# Altium schematic symbol library WE-GF.SchLib: 64 symbols (part 1 of 2)
Pins are listed as number, name and electrical type; pins without a type are passive.

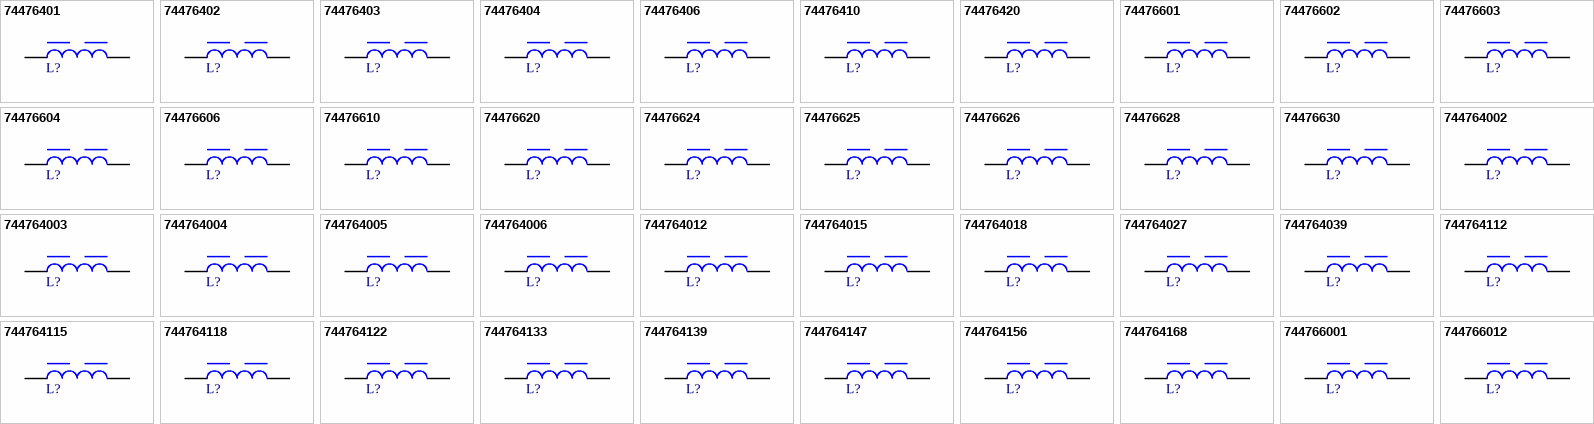
[diagram p0: symbols 74476401 to 744766012]

## 74476401
designator L?, comment 1µH, 400mA  (value not drawn)
WE-GF SMT Wire Wound Inductor, size 3225, 1µH, 400mA, 0.7Ω; Manufacturer Part Number: 74476401; Manufacturer: Wurth Elektronik; Case/Size Code: 3225; Q Factor: 30; Self Resonant Frequency: 340MHz; Category: Unshielded Power Inductors; Match Code: WE-GF; ComponentLink1Description: Website Link; ComponentLink1URL: https://www.we-online.com/redexpert/article/74476401?ad; ComponentLink2Description: Datasheet Link; ComponentLink2URL: https://www.we-online.com/redexpert/spec/74476401?ad; Mount: Surface Mount; Operating Temperature Max: 105°C; Operating Temperature Min: -40°C; Packaging: Tape and Reel; Length: 3.2mm; Width: 2.5mm; Height: 2.2mm; DC Resistance Max: 0.7Ω; Inductance: 1µH; Rated Current: 400mA
footprint WE-GF_3225
simulation model 1210_74476401_1u
pins: 1, 2

## 74476402
designator L?, comment 2.2µH, 320mA  (value not drawn)
WE-GF SMT Wire Wound Inductor, size 3225, 2.2µH, 320mA, 1Ω; Manufacturer Part Number: 74476402; Manufacturer: Wurth Elektronik; Case/Size Code: 3225; Q Factor: 30; Self Resonant Frequency: 100MHz; Category: Unshielded Power Inductors; Match Code: WE-GF; ComponentLink1Description: Website Link; ComponentLink1URL: https://www.we-online.com/redexpert/article/74476402?ad; ComponentLink2Description: Datasheet Link; ComponentLink2URL: https://www.we-online.com/redexpert/spec/74476402?ad; Mount: Surface Mount; Operating Temperature Max: 105°C; Operating Temperature Min: -40°C; Packaging: Tape and Reel; Length: 3.2mm; Width: 2.5mm; Height: 2.2mm; DC Resistance Max: 1Ω; Inductance: 2.2µH; Rated Current: 320mA
footprint WE-GF_3225
simulation model 1210_74476402_2.2u
pins: 1, 2

## 74476403
designator L?, comment 3.3µH, 260mA  (value not drawn)
WE-GF SMT Wire Wound Inductor, size 3225, 3.3µH, 260mA, 1.2Ω; Manufacturer Part Number: 74476403; Manufacturer: Wurth Elektronik; Case/Size Code: 3225; Q Factor: 30; Self Resonant Frequency: 60MHz; Category: Unshielded Power Inductors; Match Code: WE-GF; ComponentLink1Description: Website Link; ComponentLink1URL: https://www.we-online.com/redexpert/article/74476403?ad; ComponentLink2Description: Datasheet Link; ComponentLink2URL: https://www.we-online.com/redexpert/spec/74476403?ad; Mount: Surface Mount; Operating Temperature Max: 105°C; Operating Temperature Min: -40°C; Packaging: Tape and Reel; Length: 3.2mm; Width: 2.5mm; Height: 2.2mm; DC Resistance Max: 1.2Ω; Inductance: 3.3µH; Rated Current: 260mA
footprint WE-GF_3225
simulation model 1210_74476403_3.3u
pins: 1, 2

## 74476404
designator L?, comment 4.7µH, 220mA  (value not drawn)
WE-GF SMT Wire Wound Inductor, size 3225, 4.7µH, 220mA, 1.5Ω; Manufacturer Part Number: 74476404; Manufacturer: Wurth Elektronik; Case/Size Code: 3225; Q Factor: 30; Self Resonant Frequency: 45MHz; Category: Unshielded Power Inductors; Match Code: WE-GF; ComponentLink1Description: Website Link; ComponentLink1URL: https://www.we-online.com/redexpert/article/74476404?ad; ComponentLink2Description: Datasheet Link; ComponentLink2URL: https://www.we-online.com/redexpert/spec/74476404?ad; Mount: Surface Mount; Operating Temperature Max: 105°C; Operating Temperature Min: -40°C; Packaging: Tape and Reel; Length: 3.2mm; Width: 2.5mm; Height: 2.2mm; DC Resistance Max: 1.5Ω; Inductance: 4.7µH; Rated Current: 220mA
footprint WE-GF_3225
simulation model 1210_74476404_4.7u
pins: 1, 2

## 74476406
designator L?, comment 6.8µH, 180mA  (value not drawn)
WE-GF SMT Wire Wound Inductor, size 3225, 6.8µH, 180mA, 1.8Ω; Manufacturer Part Number: 74476406; Manufacturer: Wurth Elektronik; Case/Size Code: 3225; Q Factor: 30; Self Resonant Frequency: 38MHz; Category: Unshielded Power Inductors; Match Code: WE-GF; ComponentLink1Description: Website Link; ComponentLink1URL: https://www.we-online.com/redexpert/article/74476406?ad; ComponentLink2Description: Datasheet Link; ComponentLink2URL: https://www.we-online.com/redexpert/spec/74476406?ad; Mount: Surface Mount; Operating Temperature Max: 105°C; Operating Temperature Min: -40°C; Packaging: Tape and Reel; Length: 3.2mm; Width: 2.5mm; Height: 2.2mm; DC Resistance Max: 1.8Ω; Inductance: 6.8µH; Rated Current: 180mA
footprint WE-GF_3225
simulation model 1210_74476406_6.8u
pins: 1, 2

## 74476410
designator L?, comment 10µH, 150mA  (value not drawn)
WE-GF SMT Wire Wound Inductor, size 3225, 10µH, 150mA, 2.1Ω; Manufacturer Part Number: 74476410; Manufacturer: Wurth Elektronik; Case/Size Code: 3225; Q Factor: 30; Self Resonant Frequency: 32MHz; Category: Unshielded Power Inductors; Match Code: WE-GF; ComponentLink1Description: Website Link; ComponentLink1URL: https://www.we-online.com/redexpert/article/74476410?ad; ComponentLink2Description: Datasheet Link; ComponentLink2URL: https://www.we-online.com/redexpert/spec/74476410?ad; Mount: Surface Mount; Operating Temperature Max: 105°C; Operating Temperature Min: -40°C; Packaging: Tape and Reel; Length: 3.2mm; Width: 2.5mm; Height: 2.2mm; DC Resistance Max: 2.1Ω; Inductance: 10µH; Rated Current: 150mA
footprint WE-GF_3225
simulation model 1210_74476410_10u
pins: 1, 2

## 74476420
designator L?, comment 100µH, 40mA  (value not drawn)
WE-GF SMT Wire Wound Inductor, size 3225, 100µH, 40mA, 11Ω; Manufacturer Part Number: 74476420; Manufacturer: Wurth Elektronik; Case/Size Code: 3225; Q Factor: 20; Self Resonant Frequency: 11MHz; Category: Unshielded Power Inductors; Match Code: WE-GF; ComponentLink1Description: Website Link; ComponentLink1URL: https://www.we-online.com/redexpert/article/74476420?ad; ComponentLink2Description: Datasheet Link; ComponentLink2URL: https://www.we-online.com/redexpert/spec/74476420?ad; Mount: Surface Mount; Operating Temperature Max: 105°C; Operating Temperature Min: -40°C; Packaging: Tape and Reel; Length: 3.2mm; Width: 2.5mm; Height: 2.2mm; DC Resistance Max: 11Ω; Inductance: 100µH; Rated Current: 40mA
footprint WE-GF_3225
simulation model 1210_74476420_100u
pins: 1, 2

## 74476601
designator L?, comment 1µH, 450mA  (value not drawn)
WE-GF SMT Wire Wound Inductor, size 4532, 1µH, 450mA, 0.5Ω; Manufacturer Part Number: 74476601; Manufacturer: Wurth Elektronik; Case/Size Code: 4532; Q Factor: 50; Self Resonant Frequency: 275MHz; Category: Unshielded Power Inductors; Match Code: WE-GF; ComponentLink1Description: Website Link; ComponentLink1URL: https://www.we-online.com/redexpert/article/74476601?ad; ComponentLink2Description: Datasheet Link; ComponentLink2URL: https://www.we-online.com/redexpert/spec/74476601?ad; Mount: Surface Mount; Operating Temperature Max: 105°C; Operating Temperature Min: -40°C; Packaging: Tape and Reel; Length: 4.5mm; Width: 3.2mm; Height: 3.2mm; DC Resistance Max: 0.5Ω; Inductance: 1µH; Rated Current: 450mA
footprint WE-GF_4532
simulation model 1812_74476601_1u
pins: 1, 2

## 74476602
designator L?, comment 2.2µH, 380mA  (value not drawn)
WE-GF SMT Wire Wound Inductor, size 4532, 2.2µH, 380mA, 0.7Ω; Manufacturer Part Number: 74476602; Manufacturer: Wurth Elektronik; Case/Size Code: 4532; Q Factor: 50; Self Resonant Frequency: 185MHz; Category: Unshielded Power Inductors; Match Code: WE-GF; ComponentLink1Description: Website Link; ComponentLink1URL: https://www.we-online.com/redexpert/article/74476602?ad; ComponentLink2Description: Datasheet Link; ComponentLink2URL: https://www.we-online.com/redexpert/spec/74476602?ad; Mount: Surface Mount; Operating Temperature Max: 105°C; Operating Temperature Min: -40°C; Packaging: Tape and Reel; Length: 4.5mm; Width: 3.2mm; Height: 3.2mm; DC Resistance Max: 0.7Ω; Inductance: 2.2µH; Rated Current: 380mA
footprint WE-GF_4532
simulation model 1812_74476602_2.2u
pins: 1, 2

## 74476603
designator L?, comment 3.3µH, 355mA  (value not drawn)
WE-GF SMT Wire Wound Inductor, size 4532, 3.3µH, 355mA, 0.8Ω; Manufacturer Part Number: 74476603; Manufacturer: Wurth Elektronik; Case/Size Code: 4532; Q Factor: 50; Self Resonant Frequency: 155MHz; Category: Unshielded Power Inductors; Match Code: WE-GF; ComponentLink1Description: Website Link; ComponentLink1URL: https://www.we-online.com/redexpert/article/74476603?ad; ComponentLink2Description: Datasheet Link; ComponentLink2URL: https://www.we-online.com/redexpert/spec/74476603?ad; Mount: Surface Mount; Operating Temperature Max: 105°C; Operating Temperature Min: -40°C; Packaging: Tape and Reel; Length: 4.5mm; Width: 3.2mm; Height: 3.2mm; DC Resistance Max: 0.8Ω; Inductance: 3.3µH; Rated Current: 355mA
footprint WE-GF_4532
simulation model 1812_74476603_3.3u
pins: 1, 2

## 74476604
designator L?, comment 4.7µH, 315mA  (value not drawn)
WE-GF SMT Wire Wound Inductor, size 4532, 4.7µH, 315mA, 1Ω; Manufacturer Part Number: 74476604; Manufacturer: Wurth Elektronik; Case/Size Code: 4532; Q Factor: 50; Self Resonant Frequency: 95MHz; Category: Unshielded Power Inductors; Match Code: WE-GF; ComponentLink1Description: Website Link; ComponentLink1URL: https://www.we-online.com/redexpert/article/74476604?ad; ComponentLink2Description: Datasheet Link; ComponentLink2URL: https://www.we-online.com/redexpert/spec/74476604?ad; Mount: Surface Mount; Operating Temperature Max: 105°C; Operating Temperature Min: -40°C; Packaging: Tape and Reel; Length: 4.5mm; Width: 3.2mm; Height: 3.2mm; DC Resistance Max: 1Ω; Inductance: 4.7µH; Rated Current: 315mA
footprint WE-GF_4532
simulation model 1812_74476604_4.7u
pins: 1, 2

## 74476606
designator L?, comment 6.8µH, 285mA  (value not drawn)
WE-GF SMT Wire Wound Inductor, size 4532, 6.8µH, 285mA, 1.2Ω; Manufacturer Part Number: 74476606; Manufacturer: Wurth Elektronik; Case/Size Code: 4532; Q Factor: 50; Self Resonant Frequency: 35MHz; Category: Unshielded Power Inductors; Match Code: WE-GF; ComponentLink1Description: Website Link; ComponentLink1URL: https://www.we-online.com/redexpert/article/74476606?ad; ComponentLink2Description: Datasheet Link; ComponentLink2URL: https://www.we-online.com/redexpert/spec/74476606?ad; Mount: Surface Mount; Operating Temperature Max: 105°C; Operating Temperature Min: -40°C; Packaging: Tape and Reel; Length: 4.5mm; Width: 3.2mm; Height: 3.2mm; DC Resistance Max: 1.2Ω; Inductance: 6.8µH; Rated Current: 285mA
footprint WE-GF_4532
simulation model 1812_74476606_6.8u
pins: 1, 2

## 74476610
designator L?, comment 10µH, 250mA  (value not drawn)
WE-GF SMT Wire Wound Inductor, size 4532, 10µH, 250mA, 1.6Ω; Manufacturer Part Number: 74476610; Manufacturer: Wurth Elektronik; Case/Size Code: 4532; Q Factor: 50; Self Resonant Frequency: 25MHz; Category: Unshielded Power Inductors; Match Code: WE-GF; ComponentLink1Description: Website Link; ComponentLink1URL: https://www.we-online.com/redexpert/article/74476610?ad; ComponentLink2Description: Datasheet Link; ComponentLink2URL: https://www.we-online.com/redexpert/spec/74476610?ad; Mount: Surface Mount; Operating Temperature Max: 105°C; Operating Temperature Min: -40°C; Packaging: Tape and Reel; Length: 4.5mm; Width: 3.2mm; Height: 3.2mm; DC Resistance Max: 1.6Ω; Inductance: 10µH; Rated Current: 250mA
footprint WE-GF_4532
simulation model 1812_74476610_10u
pins: 1, 2

## 74476620
designator L?, comment 100µH, 110mA  (value not drawn)
WE-GF SMT Wire Wound Inductor, size 4532, 100µH, 110mA, 8Ω; Manufacturer Part Number: 74476620; Manufacturer: Wurth Elektronik; Case/Size Code: 4532; Q Factor: 40; Self Resonant Frequency: 8.5MHz; Category: Unshielded Power Inductors; Match Code: WE-GF; ComponentLink1Description: Website Link; ComponentLink1URL: https://www.we-online.com/redexpert/article/74476620?ad; ComponentLink2Description: Datasheet Link; ComponentLink2URL: https://www.we-online.com/redexpert/spec/74476620?ad; Mount: Surface Mount; Operating Temperature Max: 105°C; Operating Temperature Min: -40°C; Packaging: Tape and Reel; Length: 4.5mm; Width: 3.2mm; Height: 3.2mm; DC Resistance Max: 8Ω; Inductance: 100µH; Rated Current: 110mA
footprint WE-GF_4532
simulation model 1812_74476620_100u
pins: 1, 2

## 74476624
designator L?, comment 470µH, 62mA  (value not drawn)
WE-GF SMT Wire Wound Inductor, size 4532, 470µH, 62mA, 26Ω; Manufacturer Part Number: 74476624; Manufacturer: Wurth Elektronik; Case/Size Code: 4532; Q Factor: 40; Self Resonant Frequency: 3.4MHz; Category: Unshielded Power Inductors; Match Code: WE-GF; ComponentLink1Description: Website Link; ComponentLink1URL: https://www.we-online.com/redexpert/article/74476624?ad; ComponentLink2Description: Datasheet Link; ComponentLink2URL: https://www.we-online.com/redexpert/spec/74476624?ad; Mount: Surface Mount; Operating Temperature Max: 105°C; Operating Temperature Min: -40°C; Packaging: Tape and Reel; Length: 4.5mm; Width: 3.2mm; Height: 3.2mm; DC Resistance Max: 26Ω; Inductance: 470µH; Rated Current: 62mA
footprint WE-GF_4532
simulation model 1812_74476624_470u
pins: 1, 2

## 74476625
designator L?, comment 560µH, 50mA  (value not drawn)
WE-GF SMT Wire Wound Inductor, size 4532, 560µH, 50mA, 30Ω; Manufacturer Part Number: 74476625; Manufacturer: Wurth Elektronik; Case/Size Code: 4532; Q Factor: 40; Self Resonant Frequency: 3MHz; Category: Unshielded Power Inductors; Match Code: WE-GF; ComponentLink1Description: Website Link; ComponentLink1URL: https://www.we-online.com/redexpert/article/74476625?ad; ComponentLink2Description: Datasheet Link; ComponentLink2URL: https://www.we-online.com/redexpert/spec/74476625?ad; Mount: Surface Mount; Operating Temperature Max: 105°C; Operating Temperature Min: -40°C; Packaging: Tape and Reel; Length: 4.5mm; Width: 3.2mm; Height: 3.2mm; DC Resistance Max: 30Ω; Inductance: 560µH; Rated Current: 50mA
footprint WE-GF_4532
simulation model 1812_74476625_560u
pins: 1, 2

## 74476626
designator L?, comment 680µH, 50mA  (value not drawn)
WE-GF SMT Wire Wound Inductor, size 4532, 680µH, 50mA, 30Ω; Manufacturer Part Number: 74476626; Manufacturer: Wurth Elektronik; Case/Size Code: 4532; Q Factor: 30; Self Resonant Frequency: 3MHz; Category: Unshielded Power Inductors; Match Code: WE-GF; ComponentLink1Description: Website Link; ComponentLink1URL: https://www.we-online.com/redexpert/article/74476626?ad; ComponentLink2Description: Datasheet Link; ComponentLink2URL: https://www.we-online.com/redexpert/spec/74476626?ad; Mount: Surface Mount; Operating Temperature Max: 105°C; Operating Temperature Min: -40°C; Packaging: Tape and Reel; Length: 4.5mm; Width: 3.2mm; Height: 3.2mm; DC Resistance Max: 30Ω; Inductance: 680µH; Rated Current: 50mA
footprint WE-GF_4532
simulation model 1812_74476626_680u
pins: 1, 2

## 74476628
designator L?, comment 820µH, 30mA  (value not drawn)
WE-GF SMT Wire Wound Inductor, size 4532, 820µH, 30mA, 45Ω; Manufacturer Part Number: 74476628; Manufacturer: Wurth Elektronik; Case/Size Code: 4532; Q Factor: 25; Self Resonant Frequency: 2.5MHz; Category: Unshielded Power Inductors; Match Code: WE-GF; ComponentLink1Description: Website Link; ComponentLink1URL: https://www.we-online.com/redexpert/article/74476628?ad; ComponentLink2Description: Datasheet Link; ComponentLink2URL: https://www.we-online.com/redexpert/spec/74476628?ad; Mount: Surface Mount; Operating Temperature Max: 105°C; Operating Temperature Min: -40°C; Packaging: Tape and Reel; Length: 4.5mm; Width: 3.2mm; Height: 3.2mm; DC Resistance Max: 45Ω; Inductance: 820µH; Rated Current: 30mA
footprint WE-GF_4532
simulation model 1812_74476628_820u
pins: 1, 2

## 74476630
designator L?, comment 1000µH, 30mA  (value not drawn)
WE-GF SMT Wire Wound Inductor, size 4532, 1000µH, 30mA, 50Ω; Manufacturer Part Number: 74476630; Manufacturer: Wurth Elektronik; Case/Size Code: 4532; Q Factor: 20; Self Resonant Frequency: 2.5MHz; Category: Unshielded Power Inductors; Match Code: WE-GF; ComponentLink1Description: Website Link; ComponentLink1URL: https://www.we-online.com/redexpert/article/74476630?ad; ComponentLink2Description: Datasheet Link; ComponentLink2URL: https://www.we-online.com/redexpert/spec/74476630?ad; Mount: Surface Mount; Operating Temperature Max: 105°C; Operating Temperature Min: -40°C; Packaging: Tape and Reel; Length: 4.5mm; Width: 3.2mm; Height: 3.2mm; DC Resistance Max: 50Ω; Inductance: 1000µH; Rated Current: 30mA
footprint WE-GF_4532
simulation model 1812_74476630_1m
pins: 1, 2

## 744764002
designator L?, comment 0.22µH, 450mA  (value not drawn)
WE-GF SMT Wire Wound Inductor, size 3225, 0.22µH, 450mA, 0.32Ω; Manufacturer Part Number: 744764002; Manufacturer: Wurth Elektronik; Case/Size Code: 3225; Q Factor: 30; Self Resonant Frequency: 660MHz; Category: Unshielded Power Inductors; Match Code: WE-GF; ComponentLink1Description: Website Link; ComponentLink1URL: https://www.we-online.com/redexpert/article/744764002?ad; ComponentLink2Description: Datasheet Link; ComponentLink2URL: https://www.we-online.com/redexpert/spec/744764002?ad; Mount: Surface Mount; Operating Temperature Max: 105°C; Operating Temperature Min: -40°C; Packaging: Tape and Reel; Length: 3.2mm; Width: 2.5mm; Height: 2.2mm; DC Resistance Max: 0.32Ω; Inductance: 0.22µH; Rated Current: 450mA
footprint WE-GF_3225
simulation model 1210_744764002_0.22u
pins: 1, 2

## 744764003
designator L?, comment 0.39µH, 450mA  (value not drawn)
WE-GF SMT Wire Wound Inductor, size 3225, 0.39µH, 450mA, 0.45Ω; Manufacturer Part Number: 744764003; Manufacturer: Wurth Elektronik; Case/Size Code: 3225; Q Factor: 30; Self Resonant Frequency: 520MHz; Category: Unshielded Power Inductors; Match Code: WE-GF; ComponentLink1Description: Website Link; ComponentLink1URL: https://www.we-online.com/redexpert/article/744764003?ad; ComponentLink2Description: Datasheet Link; ComponentLink2URL: https://www.we-online.com/redexpert/spec/744764003?ad; Mount: Surface Mount; Operating Temperature Max: 105°C; Operating Temperature Min: -40°C; Packaging: Tape and Reel; Length: 3.2mm; Width: 2.5mm; Height: 2.2mm; DC Resistance Max: 0.45Ω; Inductance: 0.39µH; Rated Current: 450mA
footprint WE-GF_3225
simulation model 1210_744764003_0.39u
pins: 1, 2

## 744764004
designator L?, comment 0.47µH, 450mA  (value not drawn)
WE-GF SMT Wire Wound Inductor, size 3225, 0.47µH, 450mA, 0.5Ω; Manufacturer Part Number: 744764004; Manufacturer: Wurth Elektronik; Case/Size Code: 3225; Q Factor: 30; Self Resonant Frequency: 480MHz; Category: Unshielded Power Inductors; Match Code: WE-GF; ComponentLink1Description: Website Link; ComponentLink1URL: https://www.we-online.com/redexpert/article/744764004?ad; ComponentLink2Description: Datasheet Link; ComponentLink2URL: https://www.we-online.com/redexpert/spec/744764004?ad; Mount: Surface Mount; Operating Temperature Max: 105°C; Operating Temperature Min: -40°C; Packaging: Tape and Reel; Length: 3.2mm; Width: 2.5mm; Height: 2.2mm; DC Resistance Max: 0.5Ω; Inductance: 0.47µH; Rated Current: 450mA
footprint WE-GF_3225
simulation model 1210_744764004_0.47u
pins: 1, 2

## 744764005
designator L?, comment 0.56µH, 450mA  (value not drawn)
WE-GF SMT Wire Wound Inductor, size 3225, 0.56µH, 450mA, 0.55Ω; Manufacturer Part Number: 744764005; Manufacturer: Wurth Elektronik; Case/Size Code: 3225; Q Factor: 30; Self Resonant Frequency: 420MHz; Category: Unshielded Power Inductors; Match Code: WE-GF; ComponentLink1Description: Website Link; ComponentLink1URL: https://www.we-online.com/redexpert/article/744764005?ad; ComponentLink2Description: Datasheet Link; ComponentLink2URL: https://www.we-online.com/redexpert/spec/744764005?ad; Mount: Surface Mount; Operating Temperature Max: 105°C; Operating Temperature Min: -40°C; Packaging: Tape and Reel; Length: 3.2mm; Width: 2.5mm; Height: 2.2mm; DC Resistance Max: 0.55Ω; Inductance: 0.56µH; Rated Current: 450mA
footprint WE-GF_3225
simulation model 1210_744764005_0.56u
pins: 1, 2

## 744764006
designator L?, comment 0.68µH, 450mA  (value not drawn)
WE-GF SMT Wire Wound Inductor, size 3225, 0.68µH, 450mA, 0.6Ω; Manufacturer Part Number: 744764006; Manufacturer: Wurth Elektronik; Case/Size Code: 3225; Q Factor: 30; Self Resonant Frequency: 400MHz; Category: Unshielded Power Inductors; Match Code: WE-GF; ComponentLink1Description: Website Link; ComponentLink1URL: https://www.we-online.com/redexpert/article/744764006?ad; ComponentLink2Description: Datasheet Link; ComponentLink2URL: https://www.we-online.com/redexpert/spec/744764006?ad; Mount: Surface Mount; Operating Temperature Max: 105°C; Operating Temperature Min: -40°C; Packaging: Tape and Reel; Length: 3.2mm; Width: 2.5mm; Height: 2.2mm; DC Resistance Max: 0.6Ω; Inductance: 0.68µH; Rated Current: 450mA
footprint WE-GF_3225
simulation model 1210_744764006_0.68u
pins: 1, 2

## 744764012
designator L?, comment 1.2µH, 390mA  (value not drawn)
WE-GF SMT Wire Wound Inductor, size 3225, 1.2µH, 390mA, 0.75Ω; Manufacturer Part Number: 744764012; Manufacturer: Wurth Elektronik; Case/Size Code: 3225; Q Factor: 30; Self Resonant Frequency: 320MHz; Category: Unshielded Power Inductors; Match Code: WE-GF; ComponentLink1Description: Website Link; ComponentLink1URL: https://www.we-online.com/redexpert/article/744764012?ad; ComponentLink2Description: Datasheet Link; ComponentLink2URL: https://www.we-online.com/redexpert/spec/744764012?ad; Mount: Surface Mount; Operating Temperature Max: 105°C; Operating Temperature Min: -40°C; Packaging: Tape and Reel; Length: 3.2mm; Width: 2.5mm; Height: 2.2mm; DC Resistance Max: 0.75Ω; Inductance: 1.2µH; Rated Current: 390mA
footprint WE-GF_3225
simulation model 1210_744764012_1.2u
pins: 1, 2

## 744764015
designator L?, comment 1.5µH, 370mA  (value not drawn)
WE-GF SMT Wire Wound Inductor, size 3225, 1.5µH, 370mA, 0.85Ω; Manufacturer Part Number: 744764015; Manufacturer: Wurth Elektronik; Case/Size Code: 3225; Q Factor: 30; Self Resonant Frequency: 250MHz; Category: Unshielded Power Inductors; Match Code: WE-GF; ComponentLink1Description: Website Link; ComponentLink1URL: https://www.we-online.com/redexpert/article/744764015?ad; ComponentLink2Description: Datasheet Link; ComponentLink2URL: https://www.we-online.com/redexpert/spec/744764015?ad; Mount: Surface Mount; Operating Temperature Max: 105°C; Operating Temperature Min: -40°C; Packaging: Tape and Reel; Length: 3.2mm; Width: 2.5mm; Height: 2.2mm; DC Resistance Max: 0.85Ω; Inductance: 1.5µH; Rated Current: 370mA
footprint WE-GF_3225
simulation model 1210_744764015_1.5u
pins: 1, 2

## 744764018
designator L?, comment 1.8µH, 350mA  (value not drawn)
WE-GF SMT Wire Wound Inductor, size 3225, 1.8µH, 350mA, 0.9Ω; Manufacturer Part Number: 744764018; Manufacturer: Wurth Elektronik; Case/Size Code: 3225; Q Factor: 30; Self Resonant Frequency: 170MHz; Category: Unshielded Power Inductors; Match Code: WE-GF; ComponentLink1Description: Website Link; ComponentLink1URL: https://www.we-online.com/redexpert/article/744764018?ad; ComponentLink2Description: Datasheet Link; ComponentLink2URL: https://www.we-online.com/redexpert/spec/744764018?ad; Mount: Surface Mount; Operating Temperature Max: 105°C; Operating Temperature Min: -40°C; Packaging: Tape and Reel; Length: 3.2mm; Width: 2.5mm; Height: 2.2mm; DC Resistance Max: 0.9Ω; Inductance: 1.8µH; Rated Current: 350mA
footprint WE-GF_3225
simulation model 1210_744764018_1.8u
pins: 1, 2

## 744764027
designator L?, comment 2.7µH, 290mA  (value not drawn)
WE-GF SMT Wire Wound Inductor, size 3225, 2.7µH, 290mA, 1.1Ω; Manufacturer Part Number: 744764027; Manufacturer: Wurth Elektronik; Case/Size Code: 3225; Q Factor: 30; Self Resonant Frequency: 80MHz; Category: Unshielded Power Inductors; Match Code: WE-GF; ComponentLink1Description: Website Link; ComponentLink1URL: https://www.we-online.com/redexpert/article/744764027?ad; ComponentLink2Description: Datasheet Link; ComponentLink2URL: https://www.we-online.com/redexpert/spec/744764027?ad; Mount: Surface Mount; Operating Temperature Max: 105°C; Operating Temperature Min: -40°C; Packaging: Tape and Reel; Length: 3.2mm; Width: 2.5mm; Height: 2.2mm; DC Resistance Max: 1.1Ω; Inductance: 2.7µH; Rated Current: 290mA
footprint WE-GF_3225
simulation model 1210_744764027_2.7u
pins: 1, 2

## 744764039
designator L?, comment 3.9µH, 250mA  (value not drawn)
WE-GF SMT Wire Wound Inductor, size 3225, 3.9µH, 250mA, 1.3Ω; Manufacturer Part Number: 744764039; Manufacturer: Wurth Elektronik; Case/Size Code: 3225; Q Factor: 30; Self Resonant Frequency: 50MHz; Category: Unshielded Power Inductors; Match Code: WE-GF; ComponentLink1Description: Website Link; ComponentLink1URL: https://www.we-online.com/redexpert/article/744764039?ad; ComponentLink2Description: Datasheet Link; ComponentLink2URL: https://www.we-online.com/redexpert/spec/744764039?ad; Mount: Surface Mount; Operating Temperature Max: 105°C; Operating Temperature Min: -40°C; Packaging: Tape and Reel; Length: 3.2mm; Width: 2.5mm; Height: 2.2mm; DC Resistance Max: 1.3Ω; Inductance: 3.9µH; Rated Current: 250mA
footprint WE-GF_3225
simulation model 1210_744764039_3.9u
pins: 1, 2

## 744764112
designator L?, comment 12µH, 140mA  (value not drawn)
WE-GF SMT Wire Wound Inductor, size 3225, 12µH, 140mA, 2.5Ω; Manufacturer Part Number: 744764112; Manufacturer: Wurth Elektronik; Case/Size Code: 3225; Q Factor: 30; Self Resonant Frequency: 28MHz; Category: Unshielded Power Inductors; Match Code: WE-GF; ComponentLink1Description: Website Link; ComponentLink1URL: https://www.we-online.com/redexpert/article/744764112?ad; ComponentLink2Description: Datasheet Link; ComponentLink2URL: https://www.we-online.com/redexpert/spec/744764112?ad; Mount: Surface Mount; Operating Temperature Max: 105°C; Operating Temperature Min: -40°C; Packaging: Tape and Reel; Length: 3.2mm; Width: 2.5mm; Height: 2.2mm; DC Resistance Max: 2.5Ω; Inductance: 12µH; Rated Current: 140mA
footprint WE-GF_3225
simulation model 1210_744764112_12u
pins: 1, 2

## 744764115
designator L?, comment 15µH, 130mA  (value not drawn)
WE-GF SMT Wire Wound Inductor, size 3225, 15µH, 130mA, 2.8Ω; Manufacturer Part Number: 744764115; Manufacturer: Wurth Elektronik; Case/Size Code: 3225; Q Factor: 30; Self Resonant Frequency: 26MHz; Category: Unshielded Power Inductors; Match Code: WE-GF; ComponentLink1Description: Website Link; ComponentLink1URL: https://www.we-online.com/redexpert/article/744764115?ad; ComponentLink2Description: Datasheet Link; ComponentLink2URL: https://www.we-online.com/redexpert/spec/744764115?ad; Mount: Surface Mount; Operating Temperature Max: 105°C; Operating Temperature Min: -40°C; Packaging: Tape and Reel; Length: 3.2mm; Width: 2.5mm; Height: 2.2mm; DC Resistance Max: 2.8Ω; Inductance: 15µH; Rated Current: 130mA
footprint WE-GF_3225
simulation model 1210_744764115_15u
pins: 1, 2

## 744764118
designator L?, comment 18µH, 120mA  (value not drawn)
WE-GF SMT Wire Wound Inductor, size 3225, 18µH, 120mA, 3.3Ω; Manufacturer Part Number: 744764118; Manufacturer: Wurth Elektronik; Case/Size Code: 3225; Q Factor: 30; Self Resonant Frequency: 23MHz; Category: Unshielded Power Inductors; Match Code: WE-GF; ComponentLink1Description: Website Link; ComponentLink1URL: https://www.we-online.com/redexpert/article/744764118?ad; ComponentLink2Description: Datasheet Link; ComponentLink2URL: https://www.we-online.com/redexpert/spec/744764118?ad; Mount: Surface Mount; Operating Temperature Max: 105°C; Operating Temperature Min: -40°C; Packaging: Tape and Reel; Length: 3.2mm; Width: 2.5mm; Height: 2.2mm; DC Resistance Max: 3.3Ω; Inductance: 18µH; Rated Current: 120mA
footprint WE-GF_3225
simulation model 1210_744764118_18u
pins: 1, 2

## 744764122
designator L?, comment 22µH, 110mA  (value not drawn)
WE-GF SMT Wire Wound Inductor, size 3225, 22µH, 110mA, 3.7Ω; Manufacturer Part Number: 744764122; Manufacturer: Wurth Elektronik; Case/Size Code: 3225; Q Factor: 30; Self Resonant Frequency: 20MHz; Category: Unshielded Power Inductors; Match Code: WE-GF; ComponentLink1Description: Website Link; ComponentLink1URL: https://www.we-online.com/redexpert/article/744764122?ad; ComponentLink2Description: Datasheet Link; ComponentLink2URL: https://www.we-online.com/redexpert/spec/744764122?ad; Mount: Surface Mount; Operating Temperature Max: 105°C; Operating Temperature Min: -40°C; Packaging: Tape and Reel; Length: 3.2mm; Width: 2.5mm; Height: 2.2mm; DC Resistance Max: 3.7Ω; Inductance: 22µH; Rated Current: 110mA
footprint WE-GF_3225
simulation model 1210_744764122_22u
pins: 1, 2

## 744764133
designator L?, comment 33µH, 70mA  (value not drawn)
WE-GF SMT Wire Wound Inductor, size 3225, 33µH, 70mA, 5.6Ω; Manufacturer Part Number: 744764133; Manufacturer: Wurth Elektronik; Case/Size Code: 3225; Q Factor: 30; Self Resonant Frequency: 17MHz; Category: Unshielded Power Inductors; Match Code: WE-GF; ComponentLink1Description: Website Link; ComponentLink1URL: https://www.we-online.com/redexpert/article/744764133?ad; ComponentLink2Description: Datasheet Link; ComponentLink2URL: https://www.we-online.com/redexpert/spec/744764133?ad; Mount: Surface Mount; Operating Temperature Max: 105°C; Operating Temperature Min: -40°C; Packaging: Tape and Reel; Length: 3.2mm; Width: 2.5mm; Height: 2.2mm; DC Resistance Max: 5.6Ω; Inductance: 33µH; Rated Current: 70mA
footprint WE-GF_3225
simulation model 1210_744764133_33u
pins: 1, 2

## 744764139
designator L?, comment 39µH, 65mA  (value not drawn)
WE-GF SMT Wire Wound Inductor, size 3225, 39µH, 65mA, 6.4Ω; Manufacturer Part Number: 744764139; Manufacturer: Wurth Elektronik; Case/Size Code: 3225; Q Factor: 30; Self Resonant Frequency: 16MHz; Category: Unshielded Power Inductors; Match Code: WE-GF; ComponentLink1Description: Website Link; ComponentLink1URL: https://www.we-online.com/redexpert/article/744764139?ad; ComponentLink2Description: Datasheet Link; ComponentLink2URL: https://www.we-online.com/redexpert/spec/744764139?ad; Mount: Surface Mount; Operating Temperature Max: 105°C; Operating Temperature Min: -40°C; Packaging: Tape and Reel; Length: 3.2mm; Width: 2.5mm; Height: 2.2mm; DC Resistance Max: 6.4Ω; Inductance: 39µH; Rated Current: 65mA
footprint WE-GF_3225
simulation model 1210_744764139_39u
pins: 1, 2

## 744764147
designator L?, comment 47µH, 60mA  (value not drawn)
WE-GF SMT Wire Wound Inductor, size 3225, 47µH, 60mA, 7Ω; Manufacturer Part Number: 744764147; Manufacturer: Wurth Elektronik; Case/Size Code: 3225; Q Factor: 30; Self Resonant Frequency: 15MHz; Category: Unshielded Power Inductors; Match Code: WE-GF; ComponentLink1Description: Website Link; ComponentLink1URL: https://www.we-online.com/redexpert/article/744764147?ad; ComponentLink2Description: Datasheet Link; ComponentLink2URL: https://www.we-online.com/redexpert/spec/744764147?ad; Mount: Surface Mount; Operating Temperature Max: 105°C; Operating Temperature Min: -40°C; Packaging: Tape and Reel; Length: 3.2mm; Width: 2.5mm; Height: 2.2mm; DC Resistance Max: 7Ω; Inductance: 47µH; Rated Current: 60mA
footprint WE-GF_3225
simulation model 1210_744764147_47u
pins: 1, 2

## 744764156
designator L?, comment 56µH, 55mA  (value not drawn)
WE-GF SMT Wire Wound Inductor, size 3225, 56µH, 55mA, 8Ω; Manufacturer Part Number: 744764156; Manufacturer: Wurth Elektronik; Case/Size Code: 3225; Q Factor: 30; Self Resonant Frequency: 14MHz; Category: Unshielded Power Inductors; Match Code: WE-GF; ComponentLink1Description: Website Link; ComponentLink1URL: https://www.we-online.com/redexpert/article/744764156?ad; ComponentLink2Description: Datasheet Link; ComponentLink2URL: https://www.we-online.com/redexpert/spec/744764156?ad; Mount: Surface Mount; Operating Temperature Max: 105°C; Operating Temperature Min: -40°C; Packaging: Tape and Reel; Length: 3.2mm; Width: 2.5mm; Height: 2.2mm; DC Resistance Max: 8Ω; Inductance: 56µH; Rated Current: 55mA
footprint WE-GF_3225
simulation model 1210_744764156_56u
pins: 1, 2

## 744764168
designator L?, comment 68µH, 50mA  (value not drawn)
WE-GF SMT Wire Wound Inductor, size 3225, 68µH, 50mA, 9Ω; Manufacturer Part Number: 744764168; Manufacturer: Wurth Elektronik; Case/Size Code: 3225; Q Factor: 30; Self Resonant Frequency: 12.5MHz; Category: Unshielded Power Inductors; Match Code: WE-GF; ComponentLink1Description: Website Link; ComponentLink1URL: https://www.we-online.com/redexpert/article/744764168?ad; ComponentLink2Description: Datasheet Link; ComponentLink2URL: https://www.we-online.com/redexpert/spec/744764168?ad; Mount: Surface Mount; Operating Temperature Max: 105°C; Operating Temperature Min: -40°C; Packaging: Tape and Reel; Length: 3.2mm; Width: 2.5mm; Height: 2.2mm; DC Resistance Max: 9Ω; Inductance: 68µH; Rated Current: 50mA
footprint WE-GF_3225
simulation model 1210_744764168_68u
pins: 1, 2

## 744766001
designator L?, comment 0.1µH, 450mA  (value not drawn)
WE-GF SMT Wire Wound Inductor, size 4532, 0.1µH, 450mA, 0.44Ω; Manufacturer Part Number: 744766001; Manufacturer: Wurth Elektronik; Case/Size Code: 4532; Q Factor: 28; Self Resonant Frequency: 780MHz; Category: Unshielded Power Inductors; Match Code: WE-GF; ComponentLink1Description: Website Link; ComponentLink1URL: https://www.we-online.com/redexpert/article/744766001?ad; ComponentLink2Description: Datasheet Link; ComponentLink2URL: https://www.we-online.com/redexpert/spec/744766001?ad; Mount: Surface Mount; Operating Temperature Max: 105°C; Operating Temperature Min: -40°C; Packaging: Tape and Reel; Length: 4.5mm; Width: 3.2mm; Height: 3.2mm; DC Resistance Max: 0.44Ω; Inductance: 0.1µH; Rated Current: 450mA
footprint WE-GF_4532
simulation model 1812_744766001_0.1u
pins: 1, 2

## 744766012
designator L?, comment 1.2µH, 430mA  (value not drawn)
WE-GF SMT Wire Wound Inductor, size 4532, 1.2µH, 430mA, 0.55Ω; Manufacturer Part Number: 744766012; Manufacturer: Wurth Elektronik; Case/Size Code: 4532; Q Factor: 50; Self Resonant Frequency: 250MHz; Category: Unshielded Power Inductors; Match Code: WE-GF; ComponentLink1Description: Website Link; ComponentLink1URL: https://www.we-online.com/redexpert/article/744766012?ad; ComponentLink2Description: Datasheet Link; ComponentLink2URL: https://www.we-online.com/redexpert/spec/744766012?ad; Mount: Surface Mount; Operating Temperature Max: 105°C; Operating Temperature Min: -40°C; Packaging: Tape and Reel; Length: 4.5mm; Width: 3.2mm; Height: 3.2mm; DC Resistance Max: 0.55Ω; Inductance: 1.2µH; Rated Current: 430mA
footprint WE-GF_4532
simulation model 1812_744766012_1.2u
pins: 1, 2

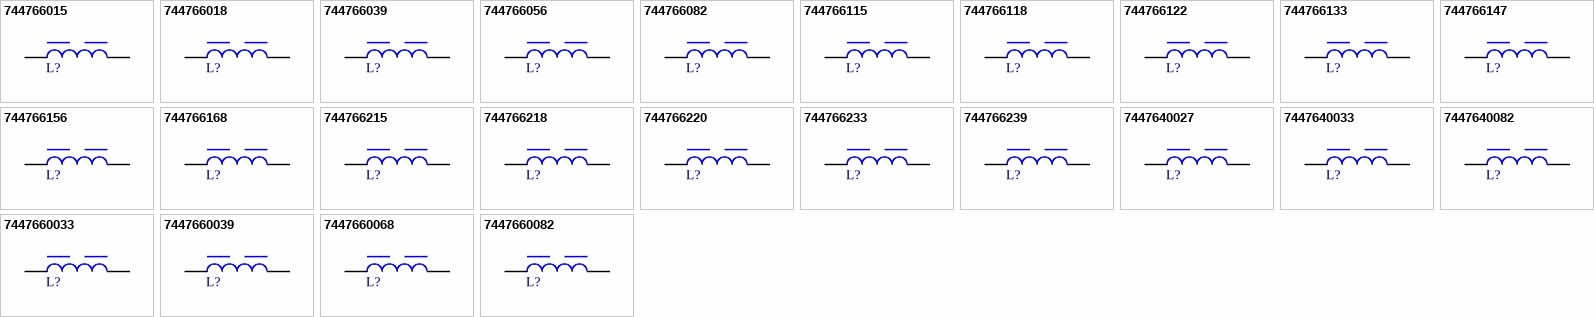
[diagram p1: symbols 744766015 to 7447660082]

## 744766015
designator L?, comment 1.5µH, 410mA  (value not drawn)
WE-GF SMT Wire Wound Inductor, size 4532, 1.5µH, 410mA, 0.6Ω; Manufacturer Part Number: 744766015; Manufacturer: Wurth Elektronik; Case/Size Code: 4532; Q Factor: 50; Self Resonant Frequency: 230MHz; Category: Unshielded Power Inductors; Match Code: WE-GF; ComponentLink1Description: Website Link; ComponentLink1URL: https://www.we-online.com/redexpert/article/744766015?ad; ComponentLink2Description: Datasheet Link; ComponentLink2URL: https://www.we-online.com/redexpert/spec/744766015?ad; Mount: Surface Mount; Operating Temperature Max: 105°C; Operating Temperature Min: -40°C; Packaging: Tape and Reel; Length: 4.5mm; Width: 3.2mm; Height: 3.2mm; DC Resistance Max: 0.6Ω; Inductance: 1.5µH; Rated Current: 410mA
footprint WE-GF_4532
simulation model 1812_744766015_1.5u
pins: 1, 2

## 744766018
designator L?, comment 1.8µH, 390mA  (value not drawn)
WE-GF SMT Wire Wound Inductor, size 4532, 1.8µH, 390mA, 0.65Ω; Manufacturer Part Number: 744766018; Manufacturer: Wurth Elektronik; Case/Size Code: 4532; Q Factor: 50; Self Resonant Frequency: 210MHz; Category: Unshielded Power Inductors; Match Code: WE-GF; ComponentLink1Description: Website Link; ComponentLink1URL: https://www.we-online.com/redexpert/article/744766018?ad; ComponentLink2Description: Datasheet Link; ComponentLink2URL: https://www.we-online.com/redexpert/spec/744766018?ad; Mount: Surface Mount; Operating Temperature Max: 105°C; Operating Temperature Min: -40°C; Packaging: Tape and Reel; Length: 4.5mm; Width: 3.2mm; Height: 3.2mm; DC Resistance Max: 0.65Ω; Inductance: 1.8µH; Rated Current: 390mA
footprint WE-GF_4532
simulation model 1812_744766018_1.8u
pins: 1, 2

## 744766039
designator L?, comment 3.9µH, 330mA  (value not drawn)
WE-GF SMT Wire Wound Inductor, size 4532, 3.9µH, 330mA, 0.9Ω; Manufacturer Part Number: 744766039; Manufacturer: Wurth Elektronik; Case/Size Code: 4532; Q Factor: 50; Self Resonant Frequency: 120MHz; Category: Unshielded Power Inductors; Match Code: WE-GF; ComponentLink1Description: Website Link; ComponentLink1URL: https://www.we-online.com/redexpert/article/744766039?ad; ComponentLink2Description: Datasheet Link; ComponentLink2URL: https://www.we-online.com/redexpert/spec/744766039?ad; Mount: Surface Mount; Operating Temperature Max: 105°C; Operating Temperature Min: -40°C; Packaging: Tape and Reel; Length: 4.5mm; Width: 3.2mm; Height: 3.2mm; DC Resistance Max: 0.9Ω; Inductance: 3.9µH; Rated Current: 330mA
footprint WE-GF_4532
simulation model 1812_744766039_3.9u
pins: 1, 2

## 744766056
designator L?, comment 5.6µH, 300mA  (value not drawn)
WE-GF SMT Wire Wound Inductor, size 4532, 5.6µH, 300mA, 1.1Ω; Manufacturer Part Number: 744766056; Manufacturer: Wurth Elektronik; Case/Size Code: 4532; Q Factor: 50; Self Resonant Frequency: 60MHz; Category: Unshielded Power Inductors; Match Code: WE-GF; ComponentLink1Description: Website Link; ComponentLink1URL: https://www.we-online.com/redexpert/article/744766056?ad; ComponentLink2Description: Datasheet Link; ComponentLink2URL: https://www.we-online.com/redexpert/spec/744766056?ad; Mount: Surface Mount; Operating Temperature Max: 105°C; Operating Temperature Min: -40°C; Packaging: Tape and Reel; Length: 4.5mm; Width: 3.2mm; Height: 3.2mm; DC Resistance Max: 1.1Ω; Inductance: 5.6µH; Rated Current: 300mA
footprint WE-GF_4532
simulation model 1812_744766056_5.6u
pins: 1, 2

## 744766082
designator L?, comment 8.2µH, 270mA  (value not drawn)
WE-GF SMT Wire Wound Inductor, size 4532, 8.2µH, 270mA, 1.4Ω; Manufacturer Part Number: 744766082; Manufacturer: Wurth Elektronik; Case/Size Code: 4532; Q Factor: 50; Self Resonant Frequency: 30MHz; Category: Unshielded Power Inductors; Match Code: WE-GF; ComponentLink1Description: Website Link; ComponentLink1URL: https://www.we-online.com/redexpert/article/744766082?ad; ComponentLink2Description: Datasheet Link; ComponentLink2URL: https://www.we-online.com/redexpert/spec/744766082?ad; Mount: Surface Mount; Operating Temperature Max: 105°C; Operating Temperature Min: -40°C; Packaging: Tape and Reel; Length: 4.5mm; Width: 3.2mm; Height: 3.2mm; DC Resistance Max: 1.4Ω; Inductance: 8.2µH; Rated Current: 270mA
footprint WE-GF_4532
simulation model 1812_744766082_8.2u
pins: 1, 2

## 744766115
designator L?, comment 15µH, 200mA  (value not drawn)
WE-GF SMT Wire Wound Inductor, size 4532, 15µH, 200mA, 2.5Ω; Manufacturer Part Number: 744766115; Manufacturer: Wurth Elektronik; Case/Size Code: 4532; Q Factor: 50; Self Resonant Frequency: 20MHz; Category: Unshielded Power Inductors; Match Code: WE-GF; ComponentLink1Description: Website Link; ComponentLink1URL: https://www.we-online.com/redexpert/article/744766115?ad; ComponentLink2Description: Datasheet Link; ComponentLink2URL: https://www.we-online.com/redexpert/spec/744766115?ad; Mount: Surface Mount; Operating Temperature Max: 105°C; Operating Temperature Min: -40°C; Packaging: Tape and Reel; Length: 4.5mm; Width: 3.2mm; Height: 3.2mm; DC Resistance Max: 2.5Ω; Inductance: 15µH; Rated Current: 200mA
footprint WE-GF_4532
simulation model 1812_744766115_15u
pins: 1, 2

## 744766118
designator L?, comment 18µH, 190mA  (value not drawn)
WE-GF SMT Wire Wound Inductor, size 4532, 18µH, 190mA, 2.8Ω; Manufacturer Part Number: 744766118; Manufacturer: Wurth Elektronik; Case/Size Code: 4532; Q Factor: 50; Self Resonant Frequency: 19MHz; Category: Unshielded Power Inductors; Match Code: WE-GF; ComponentLink1Description: Website Link; ComponentLink1URL: https://www.we-online.com/redexpert/article/744766118?ad; ComponentLink2Description: Datasheet Link; ComponentLink2URL: https://www.we-online.com/redexpert/spec/744766118?ad; Mount: Surface Mount; Operating Temperature Max: 105°C; Operating Temperature Min: -40°C; Packaging: Tape and Reel; Length: 4.5mm; Width: 3.2mm; Height: 3.2mm; DC Resistance Max: 2.8Ω; Inductance: 18µH; Rated Current: 190mA
footprint WE-GF_4532
simulation model 1812_744766118_18u
pins: 1, 2

## 744766122
designator L?, comment 22µH, 180mA  (value not drawn)
WE-GF SMT Wire Wound Inductor, size 4532, 22µH, 180mA, 3.2Ω; Manufacturer Part Number: 744766122; Manufacturer: Wurth Elektronik; Case/Size Code: 4532; Q Factor: 50; Self Resonant Frequency: 18MHz; Category: Unshielded Power Inductors; Match Code: WE-GF; ComponentLink1Description: Website Link; ComponentLink1URL: https://www.we-online.com/redexpert/article/744766122?ad; ComponentLink2Description: Datasheet Link; ComponentLink2URL: https://www.we-online.com/redexpert/spec/744766122?ad; Mount: Surface Mount; Operating Temperature Max: 105°C; Operating Temperature Min: -40°C; Packaging: Tape and Reel; Length: 4.5mm; Width: 3.2mm; Height: 3.2mm; DC Resistance Max: 3.2Ω; Inductance: 22µH; Rated Current: 180mA
footprint WE-GF_4532
simulation model 1812_744766122_22u
pins: 1, 2

## 744766133
designator L?, comment 33µH, 160mA  (value not drawn)
WE-GF SMT Wire Wound Inductor, size 4532, 33µH, 160mA, 4Ω; Manufacturer Part Number: 744766133; Manufacturer: Wurth Elektronik; Case/Size Code: 4532; Q Factor: 50; Self Resonant Frequency: 14MHz; Category: Unshielded Power Inductors; Match Code: WE-GF; ComponentLink1Description: Website Link; ComponentLink1URL: https://www.we-online.com/redexpert/article/744766133?ad; ComponentLink2Description: Datasheet Link; ComponentLink2URL: https://www.we-online.com/redexpert/spec/744766133?ad; Mount: Surface Mount; Operating Temperature Max: 105°C; Operating Temperature Min: -40°C; Packaging: Tape and Reel; Length: 4.5mm; Width: 3.2mm; Height: 3.2mm; DC Resistance Max: 4Ω; Inductance: 33µH; Rated Current: 160mA
footprint WE-GF_4532
simulation model 1812_744766133_33u
pins: 1, 2

## 744766147
designator L?, comment 47µH, 140mA  (value not drawn)
WE-GF SMT Wire Wound Inductor, size 4532, 47µH, 140mA, 5Ω; Manufacturer Part Number: 744766147; Manufacturer: Wurth Elektronik; Case/Size Code: 4532; Q Factor: 50; Self Resonant Frequency: 12MHz; Category: Unshielded Power Inductors; Match Code: WE-GF; ComponentLink1Description: Website Link; ComponentLink1URL: https://www.we-online.com/redexpert/article/744766147?ad; ComponentLink2Description: Datasheet Link; ComponentLink2URL: https://www.we-online.com/redexpert/spec/744766147?ad; Mount: Surface Mount; Operating Temperature Max: 105°C; Operating Temperature Min: -40°C; Packaging: Tape and Reel; Length: 4.5mm; Width: 3.2mm; Height: 3.2mm; DC Resistance Max: 5Ω; Inductance: 47µH; Rated Current: 140mA
footprint WE-GF_4532
simulation model 1812_744766147_47u
pins: 1, 2

## 744766156
designator L?, comment 56µH, 135mA  (value not drawn)
WE-GF SMT Wire Wound Inductor, size 4532, 56µH, 135mA, 5.5Ω; Manufacturer Part Number: 744766156; Manufacturer: Wurth Elektronik; Case/Size Code: 4532; Q Factor: 50; Self Resonant Frequency: 11MHz; Category: Unshielded Power Inductors; Match Code: WE-GF; ComponentLink1Description: Website Link; ComponentLink1URL: https://www.we-online.com/redexpert/article/744766156?ad; ComponentLink2Description: Datasheet Link; ComponentLink2URL: https://www.we-online.com/redexpert/spec/744766156?ad; Mount: Surface Mount; Operating Temperature Max: 105°C; Operating Temperature Min: -40°C; Packaging: Tape and Reel; Length: 4.5mm; Width: 3.2mm; Height: 3.2mm; DC Resistance Max: 5.5Ω; Inductance: 56µH; Rated Current: 135mA
footprint WE-GF_4532
simulation model 1812_744766156_56u
pins: 1, 2

## 744766168
designator L?, comment 68µH, 130mA  (value not drawn)
WE-GF SMT Wire Wound Inductor, size 4532, 68µH, 130mA, 6Ω; Manufacturer Part Number: 744766168; Manufacturer: Wurth Elektronik; Case/Size Code: 4532; Q Factor: 50; Self Resonant Frequency: 10MHz; Category: Unshielded Power Inductors; Match Code: WE-GF; ComponentLink1Description: Website Link; ComponentLink1URL: https://www.we-online.com/redexpert/article/744766168?ad; ComponentLink2Description: Datasheet Link; ComponentLink2URL: https://www.we-online.com/redexpert/spec/744766168?ad; Mount: Surface Mount; Operating Temperature Max: 105°C; Operating Temperature Min: -40°C; Packaging: Tape and Reel; Length: 4.5mm; Width: 3.2mm; Height: 3.2mm; DC Resistance Max: 6Ω; Inductance: 68µH; Rated Current: 130mA
footprint WE-GF_4532
simulation model 1812_744766168_68u
pins: 1, 2

## 744766215
designator L?, comment 150µH, 105mA  (value not drawn)
WE-GF SMT Wire Wound Inductor, size 4532, 150µH, 105mA, 9Ω; Manufacturer Part Number: 744766215; Manufacturer: Wurth Elektronik; Case/Size Code: 4532; Q Factor: 40; Self Resonant Frequency: 6MHz; Category: Unshielded Power Inductors; Match Code: WE-GF; ComponentLink1Description: Website Link; ComponentLink1URL: https://www.we-online.com/redexpert/article/744766215?ad; ComponentLink2Description: Datasheet Link; ComponentLink2URL: https://www.we-online.com/redexpert/spec/744766215?ad; Mount: Surface Mount; Operating Temperature Max: 105°C; Operating Temperature Min: -40°C; Packaging: Tape and Reel; Length: 4.5mm; Width: 3.2mm; Height: 3.2mm; DC Resistance Max: 9Ω; Inductance: 150µH; Rated Current: 105mA
footprint WE-GF_4532
simulation model 1812_744766215_150u
pins: 1, 2

## 744766218
designator L?, comment 180µH, 100mA  (value not drawn)
WE-GF SMT Wire Wound Inductor, size 4532, 180µH, 100mA, 9.5Ω; Manufacturer Part Number: 744766218; Manufacturer: Wurth Elektronik; Case/Size Code: 4532; Q Factor: 40; Self Resonant Frequency: 5.5MHz; Category: Unshielded Power Inductors; Match Code: WE-GF; ComponentLink1Description: Website Link; ComponentLink1URL: https://www.we-online.com/redexpert/article/744766218?ad; ComponentLink2Description: Datasheet Link; ComponentLink2URL: https://www.we-online.com/redexpert/spec/744766218?ad; Mount: Surface Mount; Operating Temperature Max: 105°C; Operating Temperature Min: -40°C; Packaging: Tape and Reel; Length: 4.5mm; Width: 3.2mm; Height: 3.2mm; DC Resistance Max: 9.5Ω; Inductance: 180µH; Rated Current: 100mA
footprint WE-GF_4532
simulation model 1812_744766218_180u
pins: 1, 2

## 744766220
designator L?, comment 220µH, 100mA  (value not drawn)
WE-GF SMT Wire Wound Inductor, size 4532, 220µH, 100mA, 10Ω; Manufacturer Part Number: 744766220; Manufacturer: Wurth Elektronik; Case/Size Code: 4532; Q Factor: 40; Self Resonant Frequency: 5MHz; Category: Unshielded Power Inductors; Match Code: WE-GF; ComponentLink1Description: Website Link; ComponentLink1URL: https://www.we-online.com/redexpert/article/744766220?ad; ComponentLink2Description: Datasheet Link; ComponentLink2URL: https://www.we-online.com/redexpert/spec/744766220?ad; Mount: Surface Mount; Operating Temperature Max: 105°C; Operating Temperature Min: -40°C; Packaging: Tape and Reel; Length: 4.5mm; Width: 3.2mm; Height: 3.2mm; DC Resistance Max: 10Ω; Inductance: 220µH; Rated Current: 100mA
footprint WE-GF_4532
simulation model 1812_744766220_220u
pins: 1, 2

## 744766233
designator L?, comment 330µH, 85mA  (value not drawn)
WE-GF SMT Wire Wound Inductor, size 4532, 330µH, 85mA, 14Ω; Manufacturer Part Number: 744766233; Manufacturer: Wurth Elektronik; Case/Size Code: 4532; Q Factor: 40; Self Resonant Frequency: 4.5MHz; Category: Unshielded Power Inductors; Match Code: WE-GF; ComponentLink1Description: Website Link; ComponentLink1URL: https://www.we-online.com/redexpert/article/744766233?ad; ComponentLink2Description: Datasheet Link; ComponentLink2URL: https://www.we-online.com/redexpert/spec/744766233?ad; Mount: Surface Mount; Operating Temperature Max: 105°C; Operating Temperature Min: -40°C; Packaging: Tape and Reel; Length: 4.5mm; Width: 3.2mm; Height: 3.2mm; DC Resistance Max: 14Ω; Inductance: 330µH; Rated Current: 85mA
footprint WE-GF_4532
simulation model 1812_744766233_330u
pins: 1, 2

## 744766239
designator L?, comment 390µH, 80mA  (value not drawn)
WE-GF SMT Wire Wound Inductor, size 4532, 390µH, 80mA, 18Ω; Manufacturer Part Number: 744766239; Manufacturer: Wurth Elektronik; Case/Size Code: 4532; Q Factor: 40; Self Resonant Frequency: 3.5MHz; Category: Unshielded Power Inductors; Match Code: WE-GF; ComponentLink1Description: Website Link; ComponentLink1URL: https://www.we-online.com/redexpert/article/744766239?ad; ComponentLink2Description: Datasheet Link; ComponentLink2URL: https://www.we-online.com/redexpert/spec/744766239?ad; Mount: Surface Mount; Operating Temperature Max: 105°C; Operating Temperature Min: -40°C; Packaging: Tape and Reel; Length: 4.5mm; Width: 3.2mm; Height: 3.2mm; DC Resistance Max: 18Ω; Inductance: 390µH; Rated Current: 80mA
footprint WE-GF_4532
simulation model 1812_744766239_390u
pins: 1, 2

## 7447640027
designator L?, comment 0.27µH, 450mA  (value not drawn)
WE-GF SMT Wire Wound Inductor, size 3225, 0.27µH, 450mA, 0.36Ω; Manufacturer Part Number: 7447640027; Manufacturer: Wurth Elektronik; Case/Size Code: 3225; Q Factor: 30; Self Resonant Frequency: 630MHz; Category: Unshielded Power Inductors; Match Code: WE-GF; ComponentLink1Description: Website Link; ComponentLink1URL: https://www.we-online.com/redexpert/article/7447640027?ad; ComponentLink2Description: Datasheet Link; ComponentLink2URL: https://www.we-online.com/redexpert/spec/7447640027?ad; Mount: Surface Mount; Operating Temperature Max: 105°C; Operating Temperature Min: -40°C; Packaging: Tape and Reel; Length: 3.2mm; Width: 2.5mm; Height: 2.2mm; DC Resistance Max: 0.36Ω; Inductance: 0.27µH; Rated Current: 450mA
footprint WE-GF_3225
simulation model 1210_7447640027_0.27u
pins: 1, 2